# Altium footprint library DFN1410.PcbLib: 1 footprints
Each footprint in its own frame and in the unit in brackets; x right, y up, seen from the top. Pads: shape width x height; smd on the part's side, far side on the other; paste and mask are expansions set on the pad; w line width, h text height; cw(c..) or ccw(c..) is an arc to the next point about the centre after c.
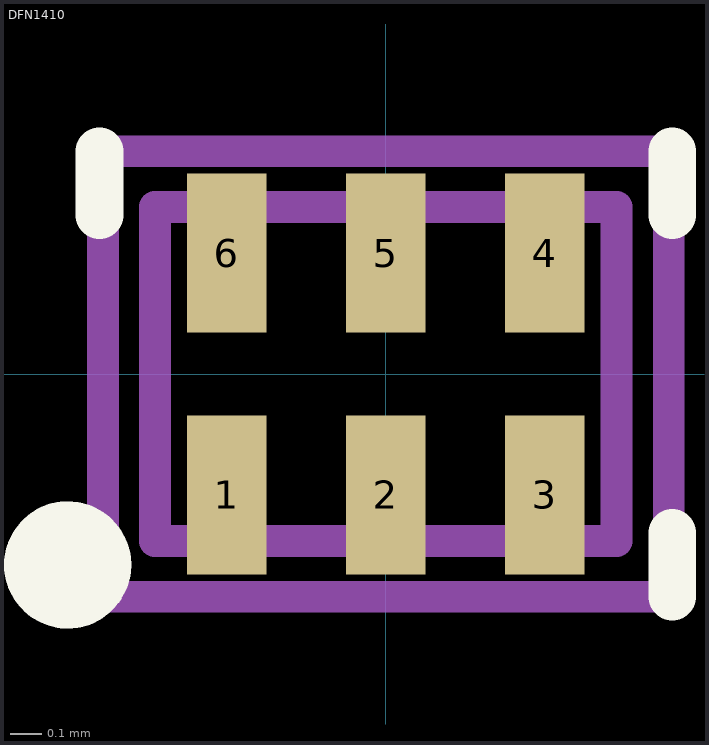
[diagram p0: the footprint, top view; thin cyan lines are the x and y axes]

## DFN1410 [mm]
pads (6):
  rect 0.25x0.5 smd: 1(-0.5,-0.38) 2(0,-0.38) 3(0.5,-0.38) 4(0.5,0.38) 5(0,0.38) 6(-0.5,0.38)
Top Overlay:
  circle w0.2: c-1,-0.6 r0.1
  lines w0.15: -0.9,0.5 -0.9,0.7 ; 0.9,-0.7 0.9,-0.5 ; 0.9,0.5 0.9,0.7
Mechanical 13:
  lines w0.1: -0.725,-0.525 0.725,-0.525 0.725,0.525 -0.725,0.525 -0.725,-0.525
Mechanical 15:
  lines w0.1: -0.889,-0.7 -0.889,0.7 0.889,0.7 0.889,-0.7 -0.889,-0.7
3D body: height 0.4, standoff -0.05, extent -0.7,-0.5 0.7,0.5